# Altium schematic symbol library BTA316B-600B.SchLib: 1 symbol
Pins are listed as number, name and electrical type; pins without a type are passive.

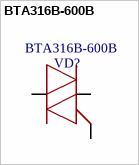
[diagram p0: symbol BTA316B-600B]

## BTA316B-600B
designator VD?
pins: 1 C, 2 A, 3 G